# Altium footprint library РПС-19.PcbLib: 1 footprints
Each footprint in its own frame and in the unit in brackets; x right, y up, seen from the top. Pads: shape width x height; smd on the part's side, far side on the other; paste and mask are expansions set on the pad; w line width, h text height; cw(c..) or ccw(c..) is an arc to the next point about the centre after c.
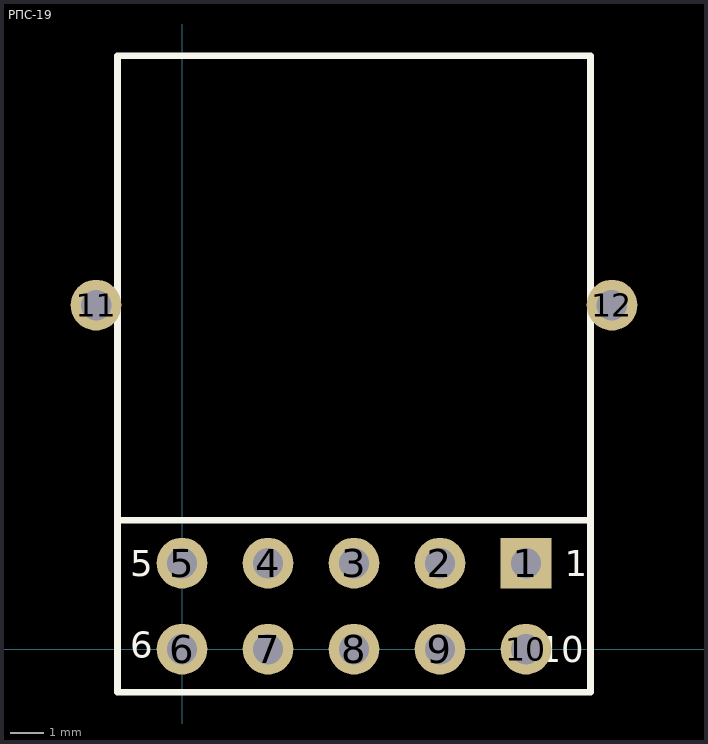
[diagram p0: the footprint, top view; thin cyan lines are the x and y axes]

## РПС-19 [mm]
pads (12):
  rect 1.5x1.5 hole 0.9: 1(10.16,2.54)
  round 1.5 hole 0.9: 2(7.62,2.54) 3(5.08,2.54) 4(2.54,2.54) 5(0,2.54) 6(0,0) 7(2.54,0) 8(5.08,0) 9(7.62,0) 10(10.16,0) 11(-2.54,10.16) 12(12.7,10.16)
Top Overlay:
  lines w0.2: -1.905,3.81 12.065,3.81 ; -1.905,-1.27 -1.905,17.526 12.065,17.526 12.065,-1.27 -1.905,-1.27
  text "10" at 10.541,-0.381 h0.76
  text "1" at 11.303,2.159 h0.76
  text "5" at -1.524,2.159 h0.76
  text "6" at -1.524,-0.254 h0.76